# EAGLE library part MCP3421 (library Semiconductors > Integrated Circuits - ICs > Data Converter ICs > Analog to Digital Converters - ADC)
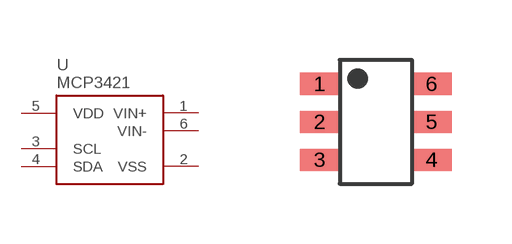
[diagram p0: symbol with the pads of SOT23-6; footprint SOT23-6]

Designator prefix U

## MCP3421  [SOT23-6]
1  VIN+
2  VSS
3  SCL
4  SDA
5  VDD
6  VIN-

## Footprint SOT23-6 (pad centres in mm)
smd 1 x 0.55: 1 -1.4,0.95; 2 -1.4,0; 3 -1.4,-0.95; 4 1.4,-0.95; 5 1.4,0; 6 1.4,0.95